# Altium schematic symbol library PJ-327C.SchLib: 1 symbol
Pins are listed as number, name and electrical type; pins without a type are passive.

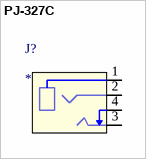
[diagram p0: symbol PJ-327C]

## PJ-327C
designator J?
pins: 1, 2, 3, 4